# Altium integrated library Linear Technology Charge_Pump.IntLib: 599 symbols (part 25 of 29)
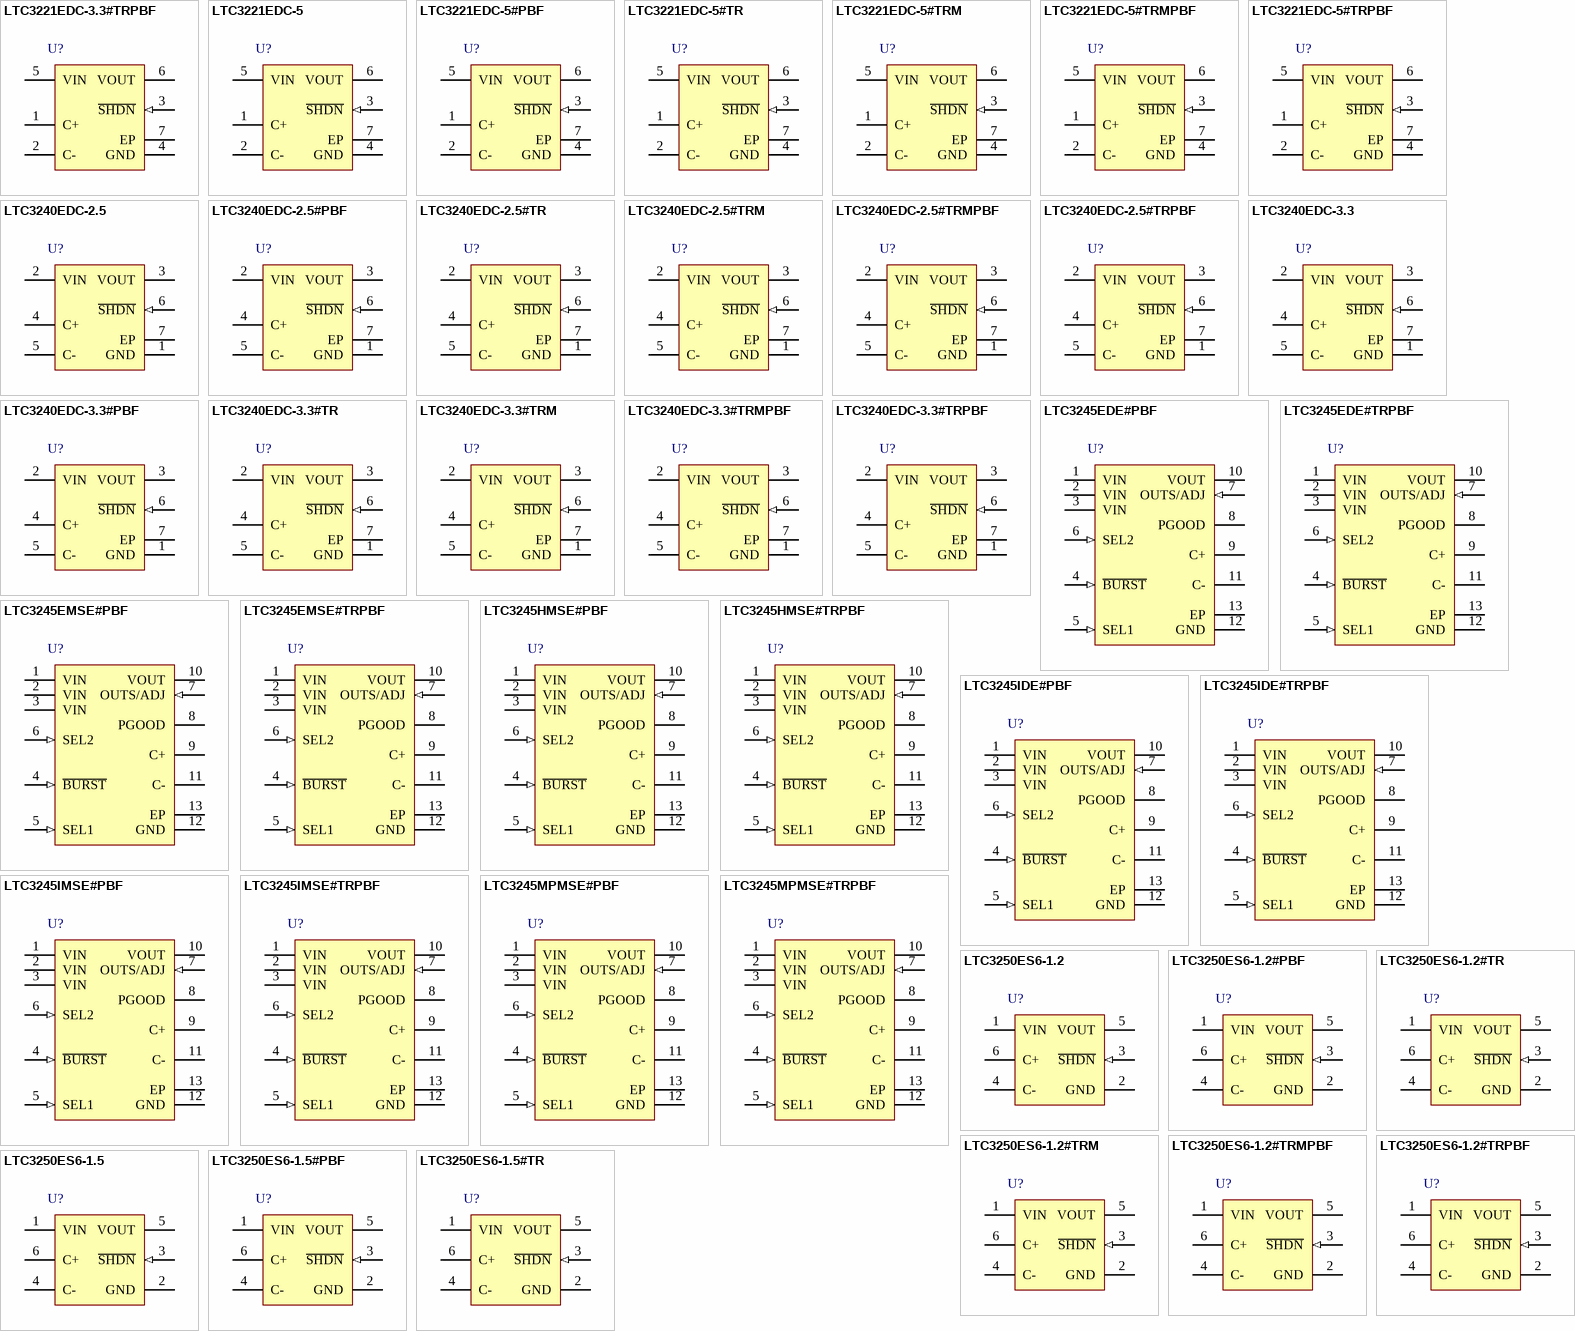
[diagram p40: symbols LTC3221EDC-3.3#TRPBF to LTC3250ES6-1.5#TR]

## LTC3240EDC-2.5
designator U?
Step-Up / Step-Down Charge Pump DC/DC Converter, 1.8 to 5.5 V Vin, 2.5 V Vout, 6-pin SON (DC6-6), -40 to 85 degC; Manufacturer: Linear Technology; PartNumber: LTC3240EDC-2.5; Frequency(kHz): 1200; Ishutdown(uA): 0.1; Isupply(mA): 0.065; Max Iout(mA): 150; Vin Max(V): 5.5; Vin Min(V): 1.8; Voutput: 2.5V; DatasheetVersion: Rev. B; PackageVersion: Rev. B, 06/2010; PackageReference: DC6-6; PackageDescription: 6-Pin Plastic DFN, Body 2 x 2 mm, Pitch 0.5 mm; RoHS: FALSE; Mounting Technology: Surface Mount; Code_JEDEC: MO-229; ComponentLink1Description: Manufacturer URL; ComponentLink1URL: http://www.linear.com/; ComponentLink2Description: Datasheet; ComponentLink2URL: http://cds.linear.com/docs/en/datasheet/3240fb.pdf; ComponentLink3Description: Package Specification; ComponentLink3URL: http://cds.linear.com/docs/en/packaging/DFN_6_05-08-1703.pdf
footprint LT-DC6-6_V (SON, 6-Leads, Body 2x2mm, Pitch 0.5mm, Thermal Pad 1.42x0.61mm)
pins: 1 GND (power) "Ground.", 2 VIN (power) "Input Supply Voltage.", 3 VOUT (power) "Regulated Output Voltage.", 4 C+ "Flying Capacitor Positive Terminal.", 5 C- "Flying Capacitor Negative Terminal.", 6 ~{SHDN} (in), 7 EP (power) "Ground."

## LTC3240EDC-2.5#PBF
designator U?
Step-Up / Step-Down Charge Pump DC/DC Converter, 1.8 to 5.5 V Vin, 2.5 V Vout, 6-pin SON (DC6-6), -40 to 85 degC, Pb-Free; Manufacturer: Linear Technology; PartNumber: LTC3240EDC-2.5#PBF; Frequency(kHz): 1200; Ishutdown(uA): 0.1; Isupply(mA): 0.065; Max Iout(mA): 150; Vin Max(V): 5.5; Vin Min(V): 1.8; Voutput: 2.5V; DatasheetVersion: Rev. B; PackageVersion: Rev. B, 06/2010; PackageReference: DC6-6; PackageDescription: 6-Pin Plastic DFN, Body 2 x 2 mm, Pitch 0.5 mm; RoHS: TRUE; Mounting Technology: Surface Mount; Code_JEDEC: MO-229; ComponentLink1Description: Manufacturer URL; ComponentLink1URL: http://www.linear.com/; ComponentLink2Description: Datasheet; ComponentLink2URL: http://cds.linear.com/docs/en/datasheet/3240fb.pdf; ComponentLink3Description: Package Specification; ComponentLink3URL: http://cds.linear.com/docs/en/packaging/DFN_6_05-08-1703.pdf
footprint LT-DC6-6_V (SON, 6-Leads, Body 2x2mm, Pitch 0.5mm, Thermal Pad 1.42x0.61mm)
pins: 1 GND (power) "Ground.", 2 VIN (power) "Input Supply Voltage.", 3 VOUT (power) "Regulated Output Voltage.", 4 C+ "Flying Capacitor Positive Terminal.", 5 C- "Flying Capacitor Negative Terminal.", 6 ~{SHDN} (in), 7 EP (power) "Ground."

## LTC3240EDC-2.5#TR
designator U?
Step-Up / Step-Down Charge Pump DC/DC Converter, 1.8 to 5.5 V Vin, 2.5 V Vout, 6-pin SON (DC6-6), -40 to 85 degC, Tape and Reel; Manufacturer: Linear Technology; PartNumber: LTC3240EDC-2.5#TR; Frequency(kHz): 1200; Ishutdown(uA): 0.1; Isupply(mA): 0.065; Max Iout(mA): 150; Vin Max(V): 5.5; Vin Min(V): 1.8; Voutput: 2.5V; DatasheetVersion: Rev. B; PackageVersion: Rev. B, 06/2010; PackageReference: DC6-6; PackageDescription: 6-Pin Plastic DFN, Body 2 x 2 mm, Pitch 0.5 mm; Packing: Tape and Reel; RoHS: FALSE; Mounting Technology: Surface Mount; Code_JEDEC: MO-229; ComponentLink1Description: Manufacturer URL; ComponentLink1URL: http://www.linear.com/; ComponentLink2Description: Datasheet; ComponentLink2URL: http://cds.linear.com/docs/en/datasheet/3240fb.pdf; ComponentLink3Description: Package Specification; ComponentLink3URL: http://cds.linear.com/docs/en/packaging/DFN_6_05-08-1703.pdf
footprint LT-DC6-6_V (SON, 6-Leads, Body 2x2mm, Pitch 0.5mm, Thermal Pad 1.42x0.61mm)
pins: 1 GND (power) "Ground.", 2 VIN (power) "Input Supply Voltage.", 3 VOUT (power) "Regulated Output Voltage.", 4 C+ "Flying Capacitor Positive Terminal.", 5 C- "Flying Capacitor Negative Terminal.", 6 ~{SHDN} (in), 7 EP (power) "Ground."

## LTC3240EDC-2.5#TRM
designator U?
Step-Up / Step-Down Charge Pump DC/DC Converter, 1.8 to 5.5 V Vin, 2.5 V Vout, 6-pin SON (DC6-6), -40 to 85 degC, Mini Tape and Reel; Manufacturer: Linear Technology; PartNumber: LTC3240EDC-2.5#TRM; Frequency(kHz): 1200; Ishutdown(uA): 0.1; Isupply(mA): 0.065; Max Iout(mA): 150; Vin Max(V): 5.5; Vin Min(V): 1.8; Voutput: 2.5V; DatasheetVersion: Rev. B; PackageVersion: Rev. B, 06/2010; PackageReference: DC6-6; PackageDescription: 6-Pin Plastic DFN, Body 2 x 2 mm, Pitch 0.5 mm; Packing: Mini Tape and Reel; RoHS: FALSE; Mounting Technology: Surface Mount; Code_JEDEC: MO-229; ComponentLink1Description: Manufacturer URL; ComponentLink1URL: http://www.linear.com/; ComponentLink2Description: Datasheet; ComponentLink2URL: http://cds.linear.com/docs/en/datasheet/3240fb.pdf; ComponentLink3Description: Package Specification; ComponentLink3URL: http://cds.linear.com/docs/en/packaging/DFN_6_05-08-1703.pdf
footprint LT-DC6-6_V (SON, 6-Leads, Body 2x2mm, Pitch 0.5mm, Thermal Pad 1.42x0.61mm)
pins: 1 GND (power) "Ground.", 2 VIN (power) "Input Supply Voltage.", 3 VOUT (power) "Regulated Output Voltage.", 4 C+ "Flying Capacitor Positive Terminal.", 5 C- "Flying Capacitor Negative Terminal.", 6 ~{SHDN} (in), 7 EP (power) "Ground."

## LTC3240EDC-2.5#TRMPBF
designator U?
Step-Up / Step-Down Charge Pump DC/DC Converter, 1.8 to 5.5 V Vin, 2.5 V Vout, 6-pin SON (DC6-6), -40 to 85 degC, Pb-Free, Mini Tape and Reel; Manufacturer: Linear Technology; PartNumber: LTC3240EDC-2.5#TRMPBF; Frequency(kHz): 1200; Ishutdown(uA): 0.1; Isupply(mA): 0.065; Max Iout(mA): 150; Vin Max(V): 5.5; Vin Min(V): 1.8; Voutput: 2.5V; DatasheetVersion: Rev. B; PackageVersion: Rev. B, 06/2010; PackageReference: DC6-6; PackageDescription: 6-Pin Plastic DFN, Body 2 x 2 mm, Pitch 0.5 mm; Supplier 1: Digi-Key; Supplier Part Number 1: LTC3240EDC-2.5#TRMPBFTR-ND; Supplier 2: Digi-Key; Supplier Part Number 2: LTC3240EDC-2.5#TRMPBFCT-ND; Supplier 3: Digi-Key; Supplier Part Number 3: LTC3240EDC-2.5#TRMPBFDKR-ND; Supplier 4: Farnell; Supplier Part Number 4: 1715232; Packing: Mini Tape and Reel; RoHS: TRUE; Mounting Technology: Surface Mount; Code_JEDEC: MO-229; ComponentLink1Description: Manufacturer URL; ComponentLink1URL: http://www.linear.com/; ComponentLink2Description: Datasheet; ComponentLink2URL: http://cds.linear.com/docs/en/datasheet/3240fb.pdf; ComponentLink3Description: Package Specification; ComponentLink3URL: http://cds.linear.com/docs/en/packaging/DFN_6_05-08-1703.pdf
footprint LT-DC6-6_V (SON, 6-Leads, Body 2x2mm, Pitch 0.5mm, Thermal Pad 1.42x0.61mm)
pins: 1 GND (power) "Ground.", 2 VIN (power) "Input Supply Voltage.", 3 VOUT (power) "Regulated Output Voltage.", 4 C+ "Flying Capacitor Positive Terminal.", 5 C- "Flying Capacitor Negative Terminal.", 6 ~{SHDN} (in), 7 EP (power) "Ground."

## LTC3240EDC-2.5#TRPBF
designator U?
Step-Up / Step-Down Charge Pump DC/DC Converter, 1.8 to 5.5 V Vin, 2.5 V Vout, 6-pin SON (DC6-6), -40 to 85 degC, Pb-Free, Tape and Reel; Manufacturer: Linear Technology; PartNumber: LTC3240EDC-2.5#TRPBF; Frequency(kHz): 1200; Ishutdown(uA): 0.1; Isupply(mA): 0.065; Max Iout(mA): 150; Vin Max(V): 5.5; Vin Min(V): 1.8; Voutput: 2.5V; DatasheetVersion: Rev. B; PackageVersion: Rev. B, 06/2010; PackageReference: DC6-6; PackageDescription: 6-Pin Plastic DFN, Body 2 x 2 mm, Pitch 0.5 mm; Supplier 1: Digi-Key; Supplier Part Number 1: LTC3240EDC-2.5#TRPBF-ND; Supplier 2: Newark; Supplier Part Number 2: 56M7453; Packing: Tape and Reel; RoHS: TRUE; Mounting Technology: Surface Mount; Code_JEDEC: MO-229; ComponentLink1Description: Manufacturer URL; ComponentLink1URL: http://www.linear.com/; ComponentLink2Description: Datasheet; ComponentLink2URL: http://cds.linear.com/docs/en/datasheet/3240fb.pdf; ComponentLink3Description: Package Specification; ComponentLink3URL: http://cds.linear.com/docs/en/packaging/DFN_6_05-08-1703.pdf
footprint LT-DC6-6_V (SON, 6-Leads, Body 2x2mm, Pitch 0.5mm, Thermal Pad 1.42x0.61mm)
pins: 1 GND (power) "Ground.", 2 VIN (power) "Input Supply Voltage.", 3 VOUT (power) "Regulated Output Voltage.", 4 C+ "Flying Capacitor Positive Terminal.", 5 C- "Flying Capacitor Negative Terminal.", 6 ~{SHDN} (in), 7 EP (power) "Ground."

## LTC3240EDC-3.3
designator U?
Step-Up / Step-Down Charge Pump DC/DC Converter, 1.8 to 5.5 V Vin, 3.3 V Vout, 6-pin SON (DC6-6), -40 to 85 degC; Manufacturer: Linear Technology; PartNumber: LTC3240EDC-3.3; Frequency(kHz): 1200; Ishutdown(uA): 0.1; Isupply(mA): 0.065; Max Iout(mA): 150; Vin Max(V): 5.5; Vin Min(V): 1.8; Voutput: 3.3V; DatasheetVersion: Rev. B; PackageVersion: Rev. B, 06/2010; PackageReference: DC6-6; PackageDescription: 6-Pin Plastic DFN, Body 2 x 2 mm, Pitch 0.5 mm; RoHS: FALSE; Mounting Technology: Surface Mount; Code_JEDEC: MO-229; ComponentLink1Description: Manufacturer URL; ComponentLink1URL: http://www.linear.com/; ComponentLink2Description: Datasheet; ComponentLink2URL: http://cds.linear.com/docs/en/datasheet/3240fb.pdf; ComponentLink3Description: Package Specification; ComponentLink3URL: http://cds.linear.com/docs/en/packaging/DFN_6_05-08-1703.pdf
footprint LT-DC6-6_V (SON, 6-Leads, Body 2x2mm, Pitch 0.5mm, Thermal Pad 1.42x0.61mm)
pins: 1 GND (power) "Ground.", 2 VIN (power) "Input Supply Voltage.", 3 VOUT (power) "Regulated Output Voltage.", 4 C+ "Flying Capacitor Positive Terminal.", 5 C- "Flying Capacitor Negative Terminal.", 6 ~{SHDN} (in), 7 EP (power) "Ground."

## LTC3240EDC-3.3#PBF
designator U?
Step-Up / Step-Down Charge Pump DC/DC Converter, 1.8 to 5.5 V Vin, 3.3 V Vout, 6-pin SON (DC6-6), -40 to 85 degC, Pb-Free; Manufacturer: Linear Technology; PartNumber: LTC3240EDC-3.3#PBF; Frequency(kHz): 1200; Ishutdown(uA): 0.1; Isupply(mA): 0.065; Max Iout(mA): 150; Vin Max(V): 5.5; Vin Min(V): 1.8; Voutput: 3.3V; DatasheetVersion: Rev. B; PackageVersion: Rev. B, 06/2010; PackageReference: DC6-6; PackageDescription: 6-Pin Plastic DFN, Body 2 x 2 mm, Pitch 0.5 mm; Supplier 1: Farnell; Supplier Part Number 1: 2308142; Supplier 2: Newark; Supplier Part Number 2: 78T3169; RoHS: TRUE; Mounting Technology: Surface Mount; Code_JEDEC: MO-229; ComponentLink1Description: Manufacturer URL; ComponentLink1URL: http://www.linear.com/; ComponentLink2Description: Datasheet; ComponentLink2URL: http://cds.linear.com/docs/en/datasheet/3240fb.pdf; ComponentLink3Description: Package Specification; ComponentLink3URL: http://cds.linear.com/docs/en/packaging/DFN_6_05-08-1703.pdf
footprint LT-DC6-6_V (SON, 6-Leads, Body 2x2mm, Pitch 0.5mm, Thermal Pad 1.42x0.61mm)
pins: 1 GND (power) "Ground.", 2 VIN (power) "Input Supply Voltage.", 3 VOUT (power) "Regulated Output Voltage.", 4 C+ "Flying Capacitor Positive Terminal.", 5 C- "Flying Capacitor Negative Terminal.", 6 ~{SHDN} (in), 7 EP (power) "Ground."

## LTC3240EDC-3.3#TR
designator U?
Step-Up / Step-Down Charge Pump DC/DC Converter, 1.8 to 5.5 V Vin, 3.3 V Vout, 6-pin SON (DC6-6), -40 to 85 degC, Tape and Reel; Manufacturer: Linear Technology; PartNumber: LTC3240EDC-3.3#TR; Frequency(kHz): 1200; Ishutdown(uA): 0.1; Isupply(mA): 0.065; Max Iout(mA): 150; Vin Max(V): 5.5; Vin Min(V): 1.8; Voutput: 3.3V; DatasheetVersion: Rev. B; PackageVersion: Rev. B, 06/2010; PackageReference: DC6-6; PackageDescription: 6-Pin Plastic DFN, Body 2 x 2 mm, Pitch 0.5 mm; Packing: Tape and Reel; RoHS: FALSE; Mounting Technology: Surface Mount; Code_JEDEC: MO-229; ComponentLink1Description: Manufacturer URL; ComponentLink1URL: http://www.linear.com/; ComponentLink2Description: Datasheet; ComponentLink2URL: http://cds.linear.com/docs/en/datasheet/3240fb.pdf; ComponentLink3Description: Package Specification; ComponentLink3URL: http://cds.linear.com/docs/en/packaging/DFN_6_05-08-1703.pdf
footprint LT-DC6-6_V (SON, 6-Leads, Body 2x2mm, Pitch 0.5mm, Thermal Pad 1.42x0.61mm)
pins: 1 GND (power) "Ground.", 2 VIN (power) "Input Supply Voltage.", 3 VOUT (power) "Regulated Output Voltage.", 4 C+ "Flying Capacitor Positive Terminal.", 5 C- "Flying Capacitor Negative Terminal.", 6 ~{SHDN} (in), 7 EP (power) "Ground."

## LTC3240EDC-3.3#TRM
designator U?
Step-Up / Step-Down Charge Pump DC/DC Converter, 1.8 to 5.5 V Vin, 3.3 V Vout, 6-pin SON (DC6-6), -40 to 85 degC, Mini Tape and Reel; Manufacturer: Linear Technology; PartNumber: LTC3240EDC-3.3#TRM; Frequency(kHz): 1200; Ishutdown(uA): 0.1; Isupply(mA): 0.065; Max Iout(mA): 150; Vin Max(V): 5.5; Vin Min(V): 1.8; Voutput: 3.3V; DatasheetVersion: Rev. B; PackageVersion: Rev. B, 06/2010; PackageReference: DC6-6; PackageDescription: 6-Pin Plastic DFN, Body 2 x 2 mm, Pitch 0.5 mm; Packing: Mini Tape and Reel; RoHS: FALSE; Mounting Technology: Surface Mount; Code_JEDEC: MO-229; ComponentLink1Description: Manufacturer URL; ComponentLink1URL: http://www.linear.com/; ComponentLink2Description: Datasheet; ComponentLink2URL: http://cds.linear.com/docs/en/datasheet/3240fb.pdf; ComponentLink3Description: Package Specification; ComponentLink3URL: http://cds.linear.com/docs/en/packaging/DFN_6_05-08-1703.pdf
footprint LT-DC6-6_V (SON, 6-Leads, Body 2x2mm, Pitch 0.5mm, Thermal Pad 1.42x0.61mm)
pins: 1 GND (power) "Ground.", 2 VIN (power) "Input Supply Voltage.", 3 VOUT (power) "Regulated Output Voltage.", 4 C+ "Flying Capacitor Positive Terminal.", 5 C- "Flying Capacitor Negative Terminal.", 6 ~{SHDN} (in), 7 EP (power) "Ground."

## LTC3240EDC-3.3#TRMPBF
designator U?
Step-Up / Step-Down Charge Pump DC/DC Converter, 1.8 to 5.5 V Vin, 3.3 V Vout, 6-pin SON (DC6-6), -40 to 85 degC, Pb-Free, Mini Tape and Reel; Manufacturer: Linear Technology; PartNumber: LTC3240EDC-3.3#TRMPBF; Frequency(kHz): 1200; Ishutdown(uA): 0.1; Isupply(mA): 0.065; Max Iout(mA): 150; Vin Max(V): 5.5; Vin Min(V): 1.8; Voutput: 3.3V; DatasheetVersion: Rev. B; PackageVersion: Rev. B, 06/2010; PackageReference: DC6-6; PackageDescription: 6-Pin Plastic DFN, Body 2 x 2 mm, Pitch 0.5 mm; Supplier 1: Digi-Key; Supplier Part Number 1: LTC3240EDC-3.3#TRMPBFTR-ND; Supplier 2: Digi-Key; Supplier Part Number 2: LTC3240EDC-3.3#TRMPBFCT-ND; Supplier 3: Digi-Key; Supplier Part Number 3: LTC3240EDC-3.3#TRMPBFDKR-ND; Supplier 4: Farnell; Supplier Part Number 4: 1715233; Supplier 5: Newark; Supplier Part Number 5: 56M7456; Packing: Mini Tape and Reel; RoHS: TRUE; Mounting Technology: Surface Mount; Code_JEDEC: MO-229; ComponentLink1Description: Manufacturer URL; ComponentLink1URL: http://www.linear.com/; ComponentLink2Description: Datasheet; ComponentLink2URL: http://cds.linear.com/docs/en/datasheet/3240fb.pdf; ComponentLink3Description: Package Specification; ComponentLink3URL: http://cds.linear.com/docs/en/packaging/DFN_6_05-08-1703.pdf
footprint LT-DC6-6_V (SON, 6-Leads, Body 2x2mm, Pitch 0.5mm, Thermal Pad 1.42x0.61mm)
pins: 1 GND (power) "Ground.", 2 VIN (power) "Input Supply Voltage.", 3 VOUT (power) "Regulated Output Voltage.", 4 C+ "Flying Capacitor Positive Terminal.", 5 C- "Flying Capacitor Negative Terminal.", 6 ~{SHDN} (in), 7 EP (power) "Ground."

## LTC3240EDC-3.3#TRPBF
designator U?
Step-Up / Step-Down Charge Pump DC/DC Converter, 1.8 to 5.5 V Vin, 3.3 V Vout, 6-pin SON (DC6-6), -40 to 85 degC, Pb-Free, Tape and Reel; Manufacturer: Linear Technology; PartNumber: LTC3240EDC-3.3#TRPBF; Frequency(kHz): 1200; Ishutdown(uA): 0.1; Isupply(mA): 0.065; Max Iout(mA): 150; Vin Max(V): 5.5; Vin Min(V): 1.8; Voutput: 3.3V; DatasheetVersion: Rev. B; PackageVersion: Rev. B, 06/2010; PackageReference: DC6-6; PackageDescription: 6-Pin Plastic DFN, Body 2 x 2 mm, Pitch 0.5 mm; Supplier 1: Digi-Key; Supplier Part Number 1: LTC3240EDC-3.3#TRPBF-ND; Supplier 2: Newark; Supplier Part Number 2: 56M7457; Packing: Tape and Reel; RoHS: TRUE; Mounting Technology: Surface Mount; Code_JEDEC: MO-229; ComponentLink1Description: Manufacturer URL; ComponentLink1URL: http://www.linear.com/; ComponentLink2Description: Datasheet; ComponentLink2URL: http://cds.linear.com/docs/en/datasheet/3240fb.pdf; ComponentLink3Description: Package Specification; ComponentLink3URL: http://cds.linear.com/docs/en/packaging/DFN_6_05-08-1703.pdf
footprint LT-DC6-6_V (SON, 6-Leads, Body 2x2mm, Pitch 0.5mm, Thermal Pad 1.42x0.61mm)
pins: 1 GND (power) "Ground.", 2 VIN (power) "Input Supply Voltage.", 3 VOUT (power) "Regulated Output Voltage.", 4 C+ "Flying Capacitor Positive Terminal.", 5 C- "Flying Capacitor Negative Terminal.", 6 ~{SHDN} (in), 7 EP (power) "Ground."

## LTC3245EDE#PBF
designator U?
Wide VIN Range, Low Noise, 250 mA Buck-Boost Charge Pump, 2.7 to 38 V Vin, Fixed 3.3 / 5 V or Adjustable (2.5 to 5 V) Vout, 12-pin SON (DE-UE-12), -40 to 125 degC, Pb-Free; Manufacturer: Linear Technology; PartNumber: LTC3245EDE#PBF; Frequency(kHz): 450; Ishutdown(uA): 4; Isupply(mA): 0.018; Max Iout(mA): 250; Vin Max(V): 38; Vin Min(V): 2.7; Voutput: Fixed 3.3V, 5V or Adjustable (2.5V to 5V); DatasheetVersion: Rev. A; PackageVersion: Rev. D, 06/2010; PackageReference: DE-UE-12; PackageDescription: 12-Pin Plastic DFN, Body 4 x 3 mm, Pitch 0.5 mm; Supplier 1: Digi-Key; Supplier Part Number 1: LTC3245EDE#PBF-ND; Supplier 2: Farnell; Supplier Part Number 2: 2313435; Supplier 3: Newark; Supplier Part Number 3: 71W8450; RoHS: TRUE; Mounting Technology: Surface Mount; Code_JEDEC: MO-229; ComponentLink1Description: Manufacturer URL; ComponentLink1URL: http://www.linear.com/; ComponentLink2Description: Datasheet; ComponentLink2URL: http://cds.linear.com/docs/en/datasheet/3245fa.pdf; ComponentLink3Description: Package Specification; ComponentLink3URL: http://cds.linear.com/docs/en/packaging/DFN_12_05-08-1695.pdf
footprint LT-DE-UE-12_V (SON, 12-Leads, Body 4x3mm, Pitch 0.5mm, Thermal Pad 3.3x1.7mm)
pins: 1 VIN (power) "Power Input Pins. Input voltage for both charge pump and IC control circuitry. The VIN pin operates from 2.7V to 38V. All VIN pins should be connected together at pins.", 2 VIN (power) "Power Input Pins. Input voltage for both charge pump and IC control circuitry. The VIN pin operates from 2.7V to 38V. All VIN pins should be connected together at pins.", 3 VIN (power) "Power Input Pins. Input voltage for both charge pump and IC control circuitry. The VIN pin operates from 2.7V to 38V. All VIN pins should be connected together at pins.", 4 ~{BURST} (in) "Burst Mode Logic Input. A logic high on the B\U\R\S\T\ pin operates the charge pump in low noise constant frequency. A logic low will operates the charge pump in Burst Mode operation for higher efficiency at low output (See Datasheet)", 5 SEL1 (in) "Logic Input Pin. See Table 1 for SEL1/SEL2 operating logic. The SEL1 pin has a 1uA (typical) pull-down current to ground and can tolerate 38V inputs allowing it to be pin-strapped to VIN.", 6 SEL2 (in) "Logic Input Pin. See Table 1 for SEL1/SEL2 operating logic. The SEL2 pin has a 1uA (typical) pull-down current to ground and can tolerate 38V inputs allowing it to be pin-strapped to VIN.", 7 OUTS/ADJ (in) "VOUT Sense / Adjust Input Pin. This pin acts as VOUT sense (OUTS) for 5V or 3.3V fixed outputs and adjust (ADJ) for adjustable output through external feedback. The ADJ pin servos to 1.2V when the device is enabled in (See Datasheet)", 8 PGOOD (hiz) "Power Good Open Drain Logic Output. The PGOOD pin goes high impedance when VOUT is about 6% of its final operating voltage. PGOOD is intended to be pulled up to VOUT or other low voltage supply with an external resistor.", 9 C+ "Flying Capacitor Positive Connection.", 10 VOUT (power) "Charge Pump Output Voltage. If VIN drops below its UVLO threshold, the connection from VIN becomes high impedance with no reverse leakage from VOUT to VIN. VOUT regulation only takes place above the UVLO threshold. VOUT can (See Datasheet)", 11 C- "Flying Capacitor Negative Connection.", 12 GND (power) "Ground. The exposed package pad is ground and must be soldered to the PC board ground plane for proper functionality and for rated thermal performance.", 13 EP (power) "Ground. The exposed package pad is ground and must be soldered to the PC board ground plane for proper functionality and for rated thermal performance."

## LTC3245EDE#TRPBF
designator U?
Wide VIN Range, Low Noise, 250 mA Buck-Boost Charge Pump, 2.7 to 38 V Vin, Fixed 3.3 / 5 V or Adjustable (2.5 to 5 V) Vout, 12-pin SON (DE-UE-12), -40 to 125 degC, Pb-Free, Tape and Reel; Manufacturer: Linear Technology; PartNumber: LTC3245EDE#TRPBF; Frequency(kHz): 450; Ishutdown(uA): 4; Isupply(mA): 0.018; Max Iout(mA): 250; Vin Max(V): 38; Vin Min(V): 2.7; Voutput: Fixed 3.3V, 5V or Adjustable (2.5V to 5V); DatasheetVersion: Rev. A; PackageVersion: Rev. D, 06/2010; PackageReference: DE-UE-12; PackageDescription: 12-Pin Plastic DFN, Body 4 x 3 mm, Pitch 0.5 mm; Supplier 1: Digi-Key; Supplier Part Number 1: LTC3245EDE#TRPBF-ND; Supplier 2: Newark; Supplier Part Number 2: 71W8451; Packing: Tape and Reel; RoHS: TRUE; Mounting Technology: Surface Mount; Code_JEDEC: MO-229; ComponentLink1Description: Manufacturer URL; ComponentLink1URL: http://www.linear.com/; ComponentLink2Description: Datasheet; ComponentLink2URL: http://cds.linear.com/docs/en/datasheet/3245fa.pdf; ComponentLink3Description: Package Specification; ComponentLink3URL: http://cds.linear.com/docs/en/packaging/DFN_12_05-08-1695.pdf
footprint LT-DE-UE-12_V (SON, 12-Leads, Body 4x3mm, Pitch 0.5mm, Thermal Pad 3.3x1.7mm)
pins: 1 VIN (power) "Power Input Pins. Input voltage for both charge pump and IC control circuitry. The VIN pin operates from 2.7V to 38V. All VIN pins should be connected together at pins.", 2 VIN (power) "Power Input Pins. Input voltage for both charge pump and IC control circuitry. The VIN pin operates from 2.7V to 38V. All VIN pins should be connected together at pins.", 3 VIN (power) "Power Input Pins. Input voltage for both charge pump and IC control circuitry. The VIN pin operates from 2.7V to 38V. All VIN pins should be connected together at pins.", 4 ~{BURST} (in) "Burst Mode Logic Input. A logic high on the B\U\R\S\T\ pin operates the charge pump in low noise constant frequency. A logic low will operates the charge pump in Burst Mode operation for higher efficiency at low output (See Datasheet)", 5 SEL1 (in) "Logic Input Pin. See Table 1 for SEL1/SEL2 operating logic. The SEL1 pin has a 1uA (typical) pull-down current to ground and can tolerate 38V inputs allowing it to be pin-strapped to VIN.", 6 SEL2 (in) "Logic Input Pin. See Table 1 for SEL1/SEL2 operating logic. The SEL2 pin has a 1uA (typical) pull-down current to ground and can tolerate 38V inputs allowing it to be pin-strapped to VIN.", 7 OUTS/ADJ (in) "VOUT Sense / Adjust Input Pin. This pin acts as VOUT sense (OUTS) for 5V or 3.3V fixed outputs and adjust (ADJ) for adjustable output through external feedback. The ADJ pin servos to 1.2V when the device is enabled in (See Datasheet)", 8 PGOOD (hiz) "Power Good Open Drain Logic Output. The PGOOD pin goes high impedance when VOUT is about 6% of its final operating voltage. PGOOD is intended to be pulled up to VOUT or other low voltage supply with an external resistor.", 9 C+ "Flying Capacitor Positive Connection.", 10 VOUT (power) "Charge Pump Output Voltage. If VIN drops below its UVLO threshold, the connection from VIN becomes high impedance with no reverse leakage from VOUT to VIN. VOUT regulation only takes place above the UVLO threshold. VOUT can (See Datasheet)", 11 C- "Flying Capacitor Negative Connection.", 12 GND (power) "Ground. The exposed package pad is ground and must be soldered to the PC board ground plane for proper functionality and for rated thermal performance.", 13 EP (power) "Ground. The exposed package pad is ground and must be soldered to the PC board ground plane for proper functionality and for rated thermal performance."

## LTC3245EMSE#PBF
designator U?
Wide VIN Range, Low Noise, 250 mA Buck-Boost Charge Pump, 2.7 to 38 V Vin, Fixed 3.3 / 5 V or Adjustable (2.5 to 5 V) Vout, 12-pin SOP (MSE-12-EDP), -40 to 125 degC, Pb-Free; Manufacturer: Linear Technology; PartNumber: LTC3245EMSE#PBF; Frequency(kHz): 450; Ishutdown(uA): 4; Isupply(mA): 0.018; Max Iout(mA): 250; Vin Max(V): 38; Vin Min(V): 2.7; Voutput: Fixed 3.3V, 5V or Adjustable (2.5V to 5V); DatasheetVersion: Rev. A; PackageVersion: Rev. G, 05/2013; PackageReference: MSE-12-EDP; PackageDescription: 12-Pin Plastic MSOP, Exposed Die Pad, Body 4.039 x 3 mm, Pitch 0.65 mm; Supplier 1: Digi-Key; Supplier Part Number 1: LTC3245EMSE#PBF-ND; Supplier 2: Farnell; Supplier Part Number 2: 2313436; Supplier 3: Newark; Supplier Part Number 3: 71W8452; RoHS: TRUE; Mounting Technology: Surface Mount; ComponentLink1Description: Manufacturer URL; ComponentLink1URL: http://www.linear.com/; ComponentLink2Description: Datasheet; ComponentLink2URL: http://cds.linear.com/docs/en/datasheet/3245fa.pdf; ComponentLink3Description: Package Specification; ComponentLink3URL: http://cds.linear.com/docs/en/packaging/05081666_G_MSE12.pdf
footprint LT-MSE-12-EDP_N (SOP, 12-Leads, Body 4.1x3.1mm, Pitch 0.65mm, Thermal Pad 2.95x1.76mm, IPC Medium Density)
footprint LT-MSE-12-EDP_L (SOP, 12-Leads, Body 4.1x3.1mm, Pitch 0.65mm, Thermal Pad 2.95x1.76mm, IPC High Density)
footprint LT-MSE-12-EDP_M (SOP, 12-Leads, Body 4.1x3.1mm, Pitch 0.65mm, Thermal Pad 2.95x1.76mm, IPC Low Density)
pins: 1 VIN (power) "Power Input Pins. Input voltage for both charge pump and IC control circuitry. The VIN pin operates from 2.7V to 38V. All VIN pins should be connected together at pins.", 2 VIN (power) "Power Input Pins. Input voltage for both charge pump and IC control circuitry. The VIN pin operates from 2.7V to 38V. All VIN pins should be connected together at pins.", 3 VIN (power) "Power Input Pins. Input voltage for both charge pump and IC control circuitry. The VIN pin operates from 2.7V to 38V. All VIN pins should be connected together at pins.", 4 ~{BURST} (in) "Burst Mode Logic Input. A logic high on the B\U\R\S\T\ pin operates the charge pump in low noise constant frequency. A logic low will operates the charge pump in Burst Mode operation for higher efficiency at low output (See Datasheet)", 5 SEL1 (in) "Logic Input Pin. See Table 1 for SEL1/SEL2 operating logic. The SEL1 pin has a 1uA (typical) pull-down current to ground and can tolerate 38V inputs allowing it to be pin-strapped to VIN.", 6 SEL2 (in) "Logic Input Pin. See Table 1 for SEL1/SEL2 operating logic. The SEL2 pin has a 1uA (typical) pull-down current to ground and can tolerate 38V inputs allowing it to be pin-strapped to VIN.", 7 OUTS/ADJ (in) "VOUT Sense / Adjust Input Pin. This pin acts as VOUT sense (OUTS) for 5V or 3.3V fixed outputs and adjust (ADJ) for adjustable output through external feedback. The ADJ pin servos to 1.2V when the device is enabled in (See Datasheet)", 8 PGOOD (hiz) "Power Good Open Drain Logic Output. The PGOOD pin goes high impedance when VOUT is about 6% of its final operating voltage. PGOOD is intended to be pulled up to VOUT or other low voltage supply with an external resistor.", 9 C+ "Flying Capacitor Positive Connection.", 10 VOUT (power) "Charge Pump Output Voltage. If VIN drops below its UVLO threshold, the connection from VIN becomes high impedance with no reverse leakage from VOUT to VIN. VOUT regulation only takes place above the UVLO threshold. VOUT can (See Datasheet)", 11 C- "Flying Capacitor Negative Connection.", 12 GND (power) "Ground. The exposed package pad is ground and must be soldered to the PC board ground plane for proper functionality and for rated thermal performance.", 13 EP (power) "Ground. The exposed package pad is ground and must be soldered to the PC board ground plane for proper functionality and for rated thermal performance."

## LTC3245EMSE#TRPBF
designator U?
Wide VIN Range, Low Noise, 250 mA Buck-Boost Charge Pump, 2.7 to 38 V Vin, Fixed 3.3 / 5 V or Adjustable (2.5 to 5 V) Vout, 12-pin SOP (MSE-12-EDP), -40 to 125 degC, Pb-Free, Tape and Reel; Manufacturer: Linear Technology; PartNumber: LTC3245EMSE#TRPBF; Frequency(kHz): 450; Ishutdown(uA): 4; Isupply(mA): 0.018; Max Iout(mA): 250; Vin Max(V): 38; Vin Min(V): 2.7; Voutput: Fixed 3.3V, 5V or Adjustable (2.5V to 5V); DatasheetVersion: Rev. A; PackageVersion: Rev. G, 05/2013; PackageReference: MSE-12-EDP; PackageDescription: 12-Pin Plastic MSOP, Exposed Die Pad, Body 4.039 x 3 mm, Pitch 0.65 mm; Supplier 1: Digi-Key; Supplier Part Number 1: LTC3245EMSE#TRPBF-ND; Supplier 2: Newark; Supplier Part Number 2: 71W8453; Packing: Tape and Reel; RoHS: TRUE; Mounting Technology: Surface Mount; ComponentLink1Description: Manufacturer URL; ComponentLink1URL: http://www.linear.com/; ComponentLink2Description: Datasheet; ComponentLink2URL: http://cds.linear.com/docs/en/datasheet/3245fa.pdf; ComponentLink3Description: Package Specification; ComponentLink3URL: http://cds.linear.com/docs/en/packaging/05081666_G_MSE12.pdf
footprint LT-MSE-12-EDP_N (SOP, 12-Leads, Body 4.1x3.1mm, Pitch 0.65mm, Thermal Pad 2.95x1.76mm, IPC Medium Density)
footprint LT-MSE-12-EDP_L (SOP, 12-Leads, Body 4.1x3.1mm, Pitch 0.65mm, Thermal Pad 2.95x1.76mm, IPC High Density)
footprint LT-MSE-12-EDP_M (SOP, 12-Leads, Body 4.1x3.1mm, Pitch 0.65mm, Thermal Pad 2.95x1.76mm, IPC Low Density)
pins: 1 VIN (power) "Power Input Pins. Input voltage for both charge pump and IC control circuitry. The VIN pin operates from 2.7V to 38V. All VIN pins should be connected together at pins.", 2 VIN (power) "Power Input Pins. Input voltage for both charge pump and IC control circuitry. The VIN pin operates from 2.7V to 38V. All VIN pins should be connected together at pins.", 3 VIN (power) "Power Input Pins. Input voltage for both charge pump and IC control circuitry. The VIN pin operates from 2.7V to 38V. All VIN pins should be connected together at pins.", 4 ~{BURST} (in) "Burst Mode Logic Input. A logic high on the B\U\R\S\T\ pin operates the charge pump in low noise constant frequency. A logic low will operates the charge pump in Burst Mode operation for higher efficiency at low output (See Datasheet)", 5 SEL1 (in) "Logic Input Pin. See Table 1 for SEL1/SEL2 operating logic. The SEL1 pin has a 1uA (typical) pull-down current to ground and can tolerate 38V inputs allowing it to be pin-strapped to VIN.", 6 SEL2 (in) "Logic Input Pin. See Table 1 for SEL1/SEL2 operating logic. The SEL2 pin has a 1uA (typical) pull-down current to ground and can tolerate 38V inputs allowing it to be pin-strapped to VIN.", 7 OUTS/ADJ (in) "VOUT Sense / Adjust Input Pin. This pin acts as VOUT sense (OUTS) for 5V or 3.3V fixed outputs and adjust (ADJ) for adjustable output through external feedback. The ADJ pin servos to 1.2V when the device is enabled in (See Datasheet)", 8 PGOOD (hiz) "Power Good Open Drain Logic Output. The PGOOD pin goes high impedance when VOUT is about 6% of its final operating voltage. PGOOD is intended to be pulled up to VOUT or other low voltage supply with an external resistor.", 9 C+ "Flying Capacitor Positive Connection.", 10 VOUT (power) "Charge Pump Output Voltage. If VIN drops below its UVLO threshold, the connection from VIN becomes high impedance with no reverse leakage from VOUT to VIN. VOUT regulation only takes place above the UVLO threshold. VOUT can (See Datasheet)", 11 C- "Flying Capacitor Negative Connection.", 12 GND (power) "Ground. The exposed package pad is ground and must be soldered to the PC board ground plane for proper functionality and for rated thermal performance.", 13 EP (power) "Ground. The exposed package pad is ground and must be soldered to the PC board ground plane for proper functionality and for rated thermal performance."

## LTC3245HMSE#PBF
designator U?
Wide VIN Range, Low Noise, 250 mA Buck-Boost Charge Pump, 2.7 to 38 V Vin, Fixed 3.3 / 5 V or Adjustable (2.5 to 5 V) Vout, 12-pin SOP (MSE-12-EDP), -40 to 150 degC, Pb-Free; Manufacturer: Linear Technology; PartNumber: LTC3245HMSE#PBF; Frequency(kHz): 450; Ishutdown(uA): 4; Isupply(mA): 0.018; Max Iout(mA): 250; Vin Max(V): 38; Vin Min(V): 2.7; Voutput: Fixed 3.3V, 5V or Adjustable (2.5V to 5V); DatasheetVersion: Rev. A; PackageVersion: Rev. G, 05/2013; PackageReference: MSE-12-EDP; PackageDescription: 12-Pin Plastic MSOP, Exposed Die Pad, Body 4.039 x 3 mm, Pitch 0.65 mm; Supplier 1: Digi-Key; Supplier Part Number 1: LTC3245HMSE#PBF-ND; Supplier 2: Farnell; Supplier Part Number 2: 2313437; Supplier 3: Newark; Supplier Part Number 3: 71W8454; RoHS: TRUE; Mounting Technology: Surface Mount; ComponentLink1Description: Manufacturer URL; ComponentLink1URL: http://www.linear.com/; ComponentLink2Description: Datasheet; ComponentLink2URL: http://cds.linear.com/docs/en/datasheet/3245fa.pdf; ComponentLink3Description: Package Specification; ComponentLink3URL: http://cds.linear.com/docs/en/packaging/05081666_G_MSE12.pdf
footprint LT-MSE-12-EDP_N (SOP, 12-Leads, Body 4.1x3.1mm, Pitch 0.65mm, Thermal Pad 2.95x1.76mm, IPC Medium Density)
footprint LT-MSE-12-EDP_L (SOP, 12-Leads, Body 4.1x3.1mm, Pitch 0.65mm, Thermal Pad 2.95x1.76mm, IPC High Density)
footprint LT-MSE-12-EDP_M (SOP, 12-Leads, Body 4.1x3.1mm, Pitch 0.65mm, Thermal Pad 2.95x1.76mm, IPC Low Density)
pins: 1 VIN (power) "Power Input Pins. Input voltage for both charge pump and IC control circuitry. The VIN pin operates from 2.7V to 38V. All VIN pins should be connected together at pins.", 2 VIN (power) "Power Input Pins. Input voltage for both charge pump and IC control circuitry. The VIN pin operates from 2.7V to 38V. All VIN pins should be connected together at pins.", 3 VIN (power) "Power Input Pins. Input voltage for both charge pump and IC control circuitry. The VIN pin operates from 2.7V to 38V. All VIN pins should be connected together at pins.", 4 ~{BURST} (in) "Burst Mode Logic Input. A logic high on the B\U\R\S\T\ pin operates the charge pump in low noise constant frequency. A logic low will operates the charge pump in Burst Mode operation for higher efficiency at low output (See Datasheet)", 5 SEL1 (in) "Logic Input Pin. See Table 1 for SEL1/SEL2 operating logic. The SEL1 pin has a 1uA (typical) pull-down current to ground and can tolerate 38V inputs allowing it to be pin-strapped to VIN.", 6 SEL2 (in) "Logic Input Pin. See Table 1 for SEL1/SEL2 operating logic. The SEL2 pin has a 1uA (typical) pull-down current to ground and can tolerate 38V inputs allowing it to be pin-strapped to VIN.", 7 OUTS/ADJ (in) "VOUT Sense / Adjust Input Pin. This pin acts as VOUT sense (OUTS) for 5V or 3.3V fixed outputs and adjust (ADJ) for adjustable output through external feedback. The ADJ pin servos to 1.2V when the device is enabled in (See Datasheet)", 8 PGOOD (hiz) "Power Good Open Drain Logic Output. The PGOOD pin goes high impedance when VOUT is about 6% of its final operating voltage. PGOOD is intended to be pulled up to VOUT or other low voltage supply with an external resistor.", 9 C+ "Flying Capacitor Positive Connection.", 10 VOUT (power) "Charge Pump Output Voltage. If VIN drops below its UVLO threshold, the connection from VIN becomes high impedance with no reverse leakage from VOUT to VIN. VOUT regulation only takes place above the UVLO threshold. VOUT can (See Datasheet)", 11 C- "Flying Capacitor Negative Connection.", 12 GND (power) "Ground. The exposed package pad is ground and must be soldered to the PC board ground plane for proper functionality and for rated thermal performance.", 13 EP (power) "Ground. The exposed package pad is ground and must be soldered to the PC board ground plane for proper functionality and for rated thermal performance."

## LTC3245HMSE#TRPBF
designator U?
Wide VIN Range, Low Noise, 250 mA Buck-Boost Charge Pump, 2.7 to 38 V Vin, Fixed 3.3 / 5 V or Adjustable (2.5 to 5 V) Vout, 12-pin SOP (MSE-12-EDP), -40 to 150 degC, Pb-Free, Tape and Reel; Manufacturer: Linear Technology; PartNumber: LTC3245HMSE#TRPBF; Frequency(kHz): 450; Ishutdown(uA): 4; Isupply(mA): 0.018; Max Iout(mA): 250; Vin Max(V): 38; Vin Min(V): 2.7; Voutput: Fixed 3.3V, 5V or Adjustable (2.5V to 5V); DatasheetVersion: Rev. A; PackageVersion: Rev. G, 05/2013; PackageReference: MSE-12-EDP; PackageDescription: 12-Pin Plastic MSOP, Exposed Die Pad, Body 4.039 x 3 mm, Pitch 0.65 mm; Supplier 1: Digi-Key; Supplier Part Number 1: LTC3245HMSE#TRPBF-ND; Supplier 2: Newark; Supplier Part Number 2: 71W8455; Packing: Tape and Reel; RoHS: TRUE; Mounting Technology: Surface Mount; ComponentLink1Description: Manufacturer URL; ComponentLink1URL: http://www.linear.com/; ComponentLink2Description: Datasheet; ComponentLink2URL: http://cds.linear.com/docs/en/datasheet/3245fa.pdf; ComponentLink3Description: Package Specification; ComponentLink3URL: http://cds.linear.com/docs/en/packaging/05081666_G_MSE12.pdf
footprint LT-MSE-12-EDP_N (SOP, 12-Leads, Body 4.1x3.1mm, Pitch 0.65mm, Thermal Pad 2.95x1.76mm, IPC Medium Density)
footprint LT-MSE-12-EDP_L (SOP, 12-Leads, Body 4.1x3.1mm, Pitch 0.65mm, Thermal Pad 2.95x1.76mm, IPC High Density)
footprint LT-MSE-12-EDP_M (SOP, 12-Leads, Body 4.1x3.1mm, Pitch 0.65mm, Thermal Pad 2.95x1.76mm, IPC Low Density)
pins: 1 VIN (power) "Power Input Pins. Input voltage for both charge pump and IC control circuitry. The VIN pin operates from 2.7V to 38V. All VIN pins should be connected together at pins.", 2 VIN (power) "Power Input Pins. Input voltage for both charge pump and IC control circuitry. The VIN pin operates from 2.7V to 38V. All VIN pins should be connected together at pins.", 3 VIN (power) "Power Input Pins. Input voltage for both charge pump and IC control circuitry. The VIN pin operates from 2.7V to 38V. All VIN pins should be connected together at pins.", 4 ~{BURST} (in) "Burst Mode Logic Input. A logic high on the B\U\R\S\T\ pin operates the charge pump in low noise constant frequency. A logic low will operates the charge pump in Burst Mode operation for higher efficiency at low output (See Datasheet)", 5 SEL1 (in) "Logic Input Pin. See Table 1 for SEL1/SEL2 operating logic. The SEL1 pin has a 1uA (typical) pull-down current to ground and can tolerate 38V inputs allowing it to be pin-strapped to VIN.", 6 SEL2 (in) "Logic Input Pin. See Table 1 for SEL1/SEL2 operating logic. The SEL2 pin has a 1uA (typical) pull-down current to ground and can tolerate 38V inputs allowing it to be pin-strapped to VIN.", 7 OUTS/ADJ (in) "VOUT Sense / Adjust Input Pin. This pin acts as VOUT sense (OUTS) for 5V or 3.3V fixed outputs and adjust (ADJ) for adjustable output through external feedback. The ADJ pin servos to 1.2V when the device is enabled in (See Datasheet)", 8 PGOOD (hiz) "Power Good Open Drain Logic Output. The PGOOD pin goes high impedance when VOUT is about 6% of its final operating voltage. PGOOD is intended to be pulled up to VOUT or other low voltage supply with an external resistor.", 9 C+ "Flying Capacitor Positive Connection.", 10 VOUT (power) "Charge Pump Output Voltage. If VIN drops below its UVLO threshold, the connection from VIN becomes high impedance with no reverse leakage from VOUT to VIN. VOUT regulation only takes place above the UVLO threshold. VOUT can (See Datasheet)", 11 C- "Flying Capacitor Negative Connection.", 12 GND (power) "Ground. The exposed package pad is ground and must be soldered to the PC board ground plane for proper functionality and for rated thermal performance.", 13 EP (power) "Ground. The exposed package pad is ground and must be soldered to the PC board ground plane for proper functionality and for rated thermal performance."

## LTC3245IDE#PBF
designator U?
Wide VIN Range, Low Noise, 250 mA Buck-Boost Charge Pump, 2.7 to 38 V Vin, Fixed 3.3 / 5 V or Adjustable (2.5 to 5 V) Vout, 12-pin SON (DE-UE-12), -40 to 125 degC, Pb-Free; Manufacturer: Linear Technology; PartNumber: LTC3245IDE#PBF; Frequency(kHz): 450; Ishutdown(uA): 4; Isupply(mA): 0.018; Max Iout(mA): 250; Vin Max(V): 38; Vin Min(V): 2.7; Voutput: Fixed 3.3V, 5V or Adjustable (2.5V to 5V); DatasheetVersion: Rev. A; PackageVersion: Rev. D, 06/2010; PackageReference: DE-UE-12; PackageDescription: 12-Pin Plastic DFN, Body 4 x 3 mm, Pitch 0.5 mm; Supplier 1: Digi-Key; Supplier Part Number 1: LTC3245IDE#PBF-ND; Supplier 2: Farnell; Supplier Part Number 2: 2313438; Supplier 3: Newark; Supplier Part Number 3: 71W8456; RoHS: TRUE; Mounting Technology: Surface Mount; Code_JEDEC: MO-229; ComponentLink1Description: Manufacturer URL; ComponentLink1URL: http://www.linear.com/; ComponentLink2Description: Datasheet; ComponentLink2URL: http://cds.linear.com/docs/en/datasheet/3245fa.pdf; ComponentLink3Description: Package Specification; ComponentLink3URL: http://cds.linear.com/docs/en/packaging/DFN_12_05-08-1695.pdf
footprint LT-DE-UE-12_V (SON, 12-Leads, Body 4x3mm, Pitch 0.5mm, Thermal Pad 3.3x1.7mm)
pins: 1 VIN (power) "Power Input Pins. Input voltage for both charge pump and IC control circuitry. The VIN pin operates from 2.7V to 38V. All VIN pins should be connected together at pins.", 2 VIN (power) "Power Input Pins. Input voltage for both charge pump and IC control circuitry. The VIN pin operates from 2.7V to 38V. All VIN pins should be connected together at pins.", 3 VIN (power) "Power Input Pins. Input voltage for both charge pump and IC control circuitry. The VIN pin operates from 2.7V to 38V. All VIN pins should be connected together at pins.", 4 ~{BURST} (in) "Burst Mode Logic Input. A logic high on the B\U\R\S\T\ pin operates the charge pump in low noise constant frequency. A logic low will operates the charge pump in Burst Mode operation for higher efficiency at low output (See Datasheet)", 5 SEL1 (in) "Logic Input Pin. See Table 1 for SEL1/SEL2 operating logic. The SEL1 pin has a 1uA (typical) pull-down current to ground and can tolerate 38V inputs allowing it to be pin-strapped to VIN.", 6 SEL2 (in) "Logic Input Pin. See Table 1 for SEL1/SEL2 operating logic. The SEL2 pin has a 1uA (typical) pull-down current to ground and can tolerate 38V inputs allowing it to be pin-strapped to VIN.", 7 OUTS/ADJ (in) "VOUT Sense / Adjust Input Pin. This pin acts as VOUT sense (OUTS) for 5V or 3.3V fixed outputs and adjust (ADJ) for adjustable output through external feedback. The ADJ pin servos to 1.2V when the device is enabled in (See Datasheet)", 8 PGOOD (hiz) "Power Good Open Drain Logic Output. The PGOOD pin goes high impedance when VOUT is about 6% of its final operating voltage. PGOOD is intended to be pulled up to VOUT or other low voltage supply with an external resistor.", 9 C+ "Flying Capacitor Positive Connection.", 10 VOUT (power) "Charge Pump Output Voltage. If VIN drops below its UVLO threshold, the connection from VIN becomes high impedance with no reverse leakage from VOUT to VIN. VOUT regulation only takes place above the UVLO threshold. VOUT can (See Datasheet)", 11 C- "Flying Capacitor Negative Connection.", 12 GND (power) "Ground. The exposed package pad is ground and must be soldered to the PC board ground plane for proper functionality and for rated thermal performance.", 13 EP (power) "Ground. The exposed package pad is ground and must be soldered to the PC board ground plane for proper functionality and for rated thermal performance."

## LTC3245IDE#TRPBF
designator U?
Wide VIN Range, Low Noise, 250 mA Buck-Boost Charge Pump, 2.7 to 38 V Vin, Fixed 3.3 / 5 V or Adjustable (2.5 to 5 V) Vout, 12-pin SON (DE-UE-12), -40 to 125 degC, Pb-Free, Tape and Reel; Manufacturer: Linear Technology; PartNumber: LTC3245IDE#TRPBF; Frequency(kHz): 450; Ishutdown(uA): 4; Isupply(mA): 0.018; Max Iout(mA): 250; Vin Max(V): 38; Vin Min(V): 2.7; Voutput: Fixed 3.3V, 5V or Adjustable (2.5V to 5V); DatasheetVersion: Rev. A; PackageVersion: Rev. D, 06/2010; PackageReference: DE-UE-12; PackageDescription: 12-Pin Plastic DFN, Body 4 x 3 mm, Pitch 0.5 mm; Supplier 1: Digi-Key; Supplier Part Number 1: LTC3245IDE#TRPBF-ND; Supplier 2: Newark; Supplier Part Number 2: 71W8457; Packing: Tape and Reel; RoHS: TRUE; Mounting Technology: Surface Mount; Code_JEDEC: MO-229; ComponentLink1Description: Manufacturer URL; ComponentLink1URL: http://www.linear.com/; ComponentLink2Description: Datasheet; ComponentLink2URL: http://cds.linear.com/docs/en/datasheet/3245fa.pdf; ComponentLink3Description: Package Specification; ComponentLink3URL: http://cds.linear.com/docs/en/packaging/DFN_12_05-08-1695.pdf
footprint LT-DE-UE-12_V (SON, 12-Leads, Body 4x3mm, Pitch 0.5mm, Thermal Pad 3.3x1.7mm)
pins: 1 VIN (power) "Power Input Pins. Input voltage for both charge pump and IC control circuitry. The VIN pin operates from 2.7V to 38V. All VIN pins should be connected together at pins.", 2 VIN (power) "Power Input Pins. Input voltage for both charge pump and IC control circuitry. The VIN pin operates from 2.7V to 38V. All VIN pins should be connected together at pins.", 3 VIN (power) "Power Input Pins. Input voltage for both charge pump and IC control circuitry. The VIN pin operates from 2.7V to 38V. All VIN pins should be connected together at pins.", 4 ~{BURST} (in) "Burst Mode Logic Input. A logic high on the B\U\R\S\T\ pin operates the charge pump in low noise constant frequency. A logic low will operates the charge pump in Burst Mode operation for higher efficiency at low output (See Datasheet)", 5 SEL1 (in) "Logic Input Pin. See Table 1 for SEL1/SEL2 operating logic. The SEL1 pin has a 1uA (typical) pull-down current to ground and can tolerate 38V inputs allowing it to be pin-strapped to VIN.", 6 SEL2 (in) "Logic Input Pin. See Table 1 for SEL1/SEL2 operating logic. The SEL2 pin has a 1uA (typical) pull-down current to ground and can tolerate 38V inputs allowing it to be pin-strapped to VIN.", 7 OUTS/ADJ (in) "VOUT Sense / Adjust Input Pin. This pin acts as VOUT sense (OUTS) for 5V or 3.3V fixed outputs and adjust (ADJ) for adjustable output through external feedback. The ADJ pin servos to 1.2V when the device is enabled in (See Datasheet)", 8 PGOOD (hiz) "Power Good Open Drain Logic Output. The PGOOD pin goes high impedance when VOUT is about 6% of its final operating voltage. PGOOD is intended to be pulled up to VOUT or other low voltage supply with an external resistor.", 9 C+ "Flying Capacitor Positive Connection.", 10 VOUT (power) "Charge Pump Output Voltage. If VIN drops below its UVLO threshold, the connection from VIN becomes high impedance with no reverse leakage from VOUT to VIN. VOUT regulation only takes place above the UVLO threshold. VOUT can (See Datasheet)", 11 C- "Flying Capacitor Negative Connection.", 12 GND (power) "Ground. The exposed package pad is ground and must be soldered to the PC board ground plane for proper functionality and for rated thermal performance.", 13 EP (power) "Ground. The exposed package pad is ground and must be soldered to the PC board ground plane for proper functionality and for rated thermal performance."